# Altium footprint library SignalCommunications.PCBLIB: 466 footprints (part 13 of 30)
Each footprint in its own frame and in the unit in brackets; x right, y up, seen from the top. Pads: shape width x height; smd on the part's side, far side on the other; paste and mask are expansions set on the pad; w line width, h text height; cw(c..) or ccw(c..) is an arc to the next point about the centre after c.
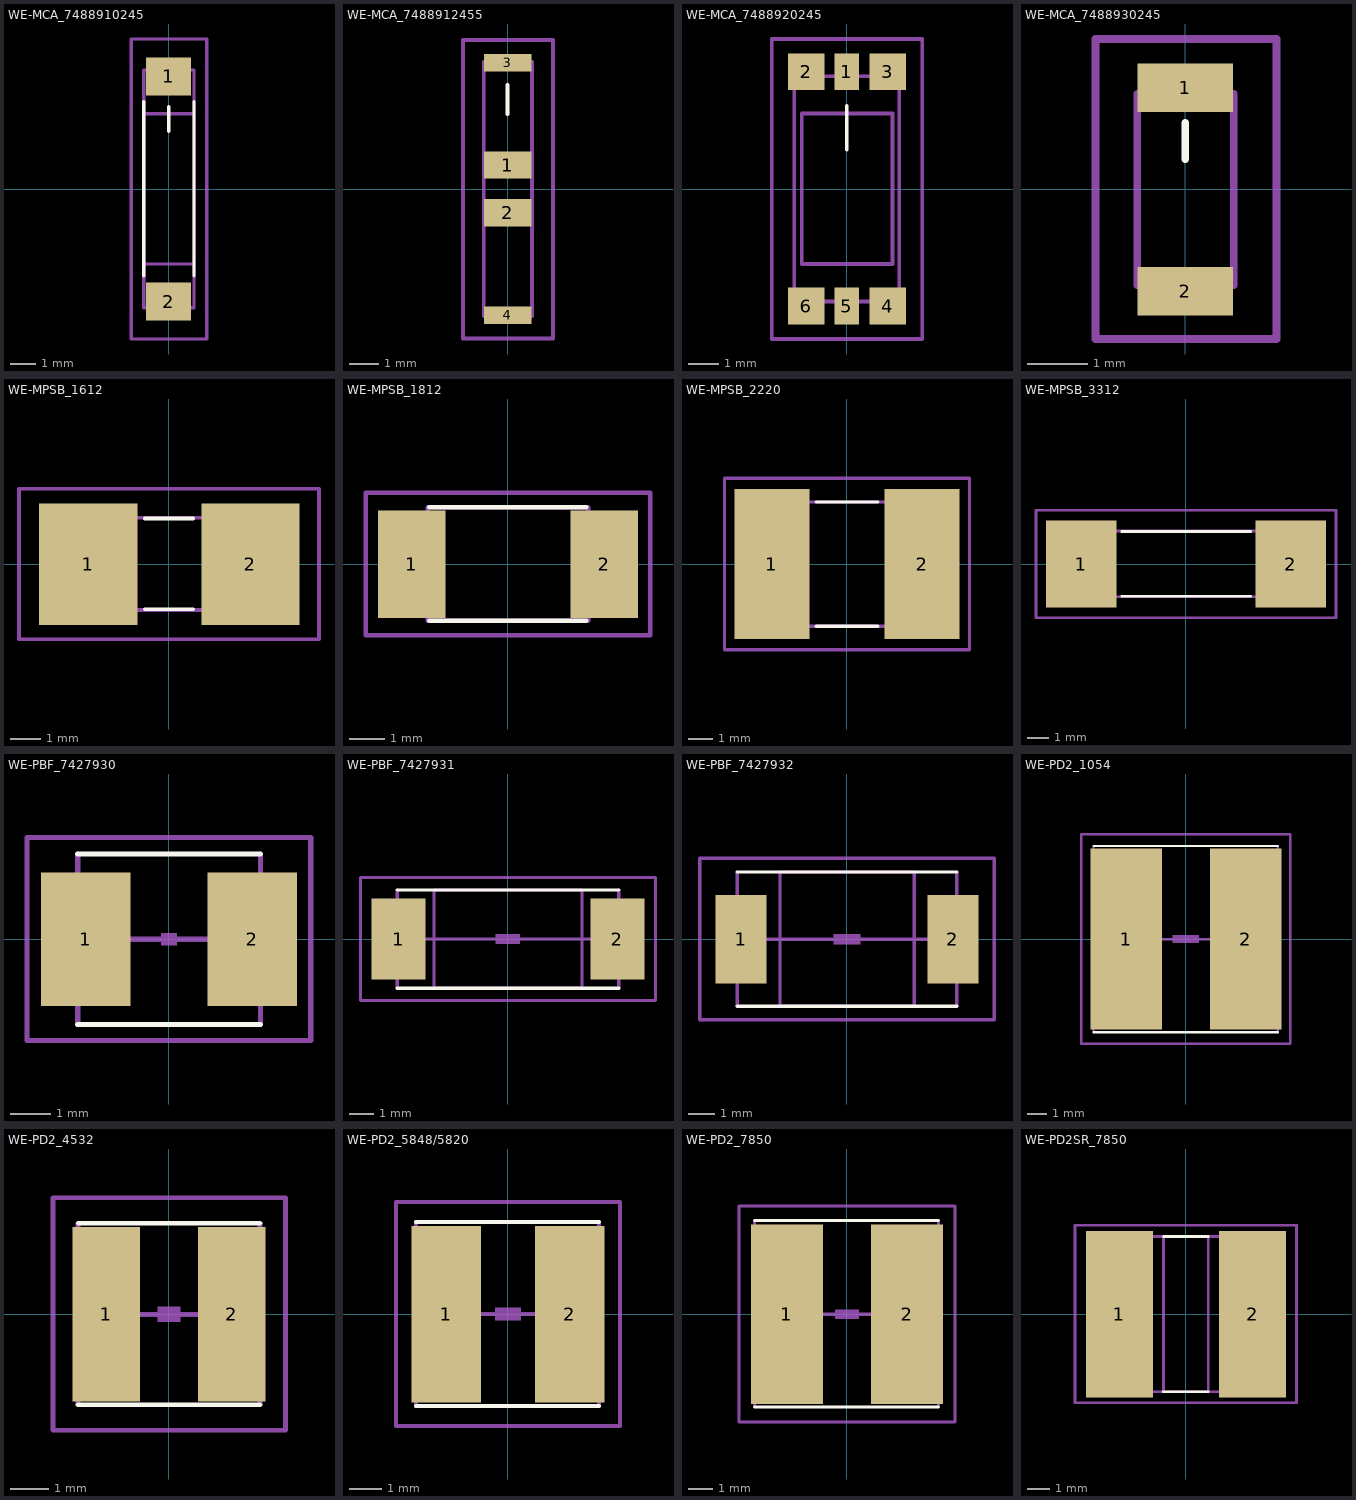
[diagram p12: the footprints below, top view; thin cyan lines are the x and y axes]

## WE-MCA_7488910245 [mil]
pads (2):
  rect 71x60 smd: 1(0,178) 2(0,-177.17)
Top Overlay:
  lines w5: -39.37,-137.01 -39.37,138 ; 0,91 0,130 ; 40,-137.01 40,138
Mechanical 10:
  lines w5: -39.37,-118.11 -39.37,119 40,119 40,-118.11 -39.37,-118.11
Mechanical 16:
  lines w5: -39.37,-187.01 40,-187.01 40,188 -39.37,188 -39.37,-187.01
Mechanical 27:
  lines w5: -59.06,-236.22 -59.06,237 60,237 60,-236.22 -59.06,-236.22

## WE-MCA_7488912455 [mil]
pads (4):
  rect 63x36 smd: 1(0,32) 2(0,-31.1)
  rect 63x23 smd: 3(0,167) 4(0,-166.14)
Top Overlay:
  lines w5: 0,99 0,138
Mechanical 16:
  lines w5: -31.5,-167.32 -31.5,168 32,168 32,-167.32 -31.5,-167.32
Mechanical 27:
  lines w5: -59.06,-196.85 -59.06,197 60,197 60,-196.85 -59.06,-196.85

## WE-MCA_7488920245 [mil]
pads (6):
  rect 32x48 smd: 1(0,154) 5(0,-153.54)
  rect 48x48 smd: 2(-53.15,154) 3(54,154) 4(54,-153.54) 6(-53.15,-153.54)
Top Overlay:
  lines w5: 0,52 0,109
Mechanical 10:
  lines w5: -59.06,-98.43 -59.06,99 60,99 60,-98.43 -59.06,-98.43
Mechanical 16:
  lines w5: -68.9,-147.64 69,-147.64 69,148 -68.9,148 -68.9,-147.64
Mechanical 27:
  lines w5: -98.43,-196.85 -98.43,197 99,197 99,-196.85 -98.43,-196.85

## WE-MCA_7488930245 [mil]
pads (2):
  rect 63x32 smd: 1(0,67) 2(0,-66.93)
Top Overlay:
  lines w5: 0,20 0,44
Mechanical 16:
  lines w5: -31.5,-62.99 -31.5,63 32,63 32,-62.99 -31.5,-62.99
Mechanical 27:
  lines w5: -59.06,-98.43 -59.06,99 60,99 60,-98.43 -59.06,-98.43

## WE-MPSB_1612 [mil]
pads (2):
  rect 129x160 smd: 1(-106,0) 2(107,0)
Top Overlay:
  lines w5: -31.5,-59.06 32,-59.06 ; -31.5,60 32,60
Mechanical 16:
  lines w5: -79.92,-60.04 -79.92,61 80,61 80,-60.04 -79.92,-60.04
Mechanical 27:
  lines w5: -196.85,-98.43 -196.85,99 197,99 197,-98.43 -196.85,-98.43

## WE-MPSB_1812 [mil]
pads (2):
  rect 75x119 smd: 1(-106.3,0) 2(107,0)
Top Overlay:
  lines w5: -86.61,-62.99 87,-62.99 ; -86.61,63 87,63
Mechanical 16:
  lines w5: -88.58,-62.99 -88.58,63 89,63 89,-62.99 -88.58,-62.99
Mechanical 27:
  lines w5: -157.48,-78.74 -157.48,79 158,79 158,-78.74 -157.48,-78.74

## WE-MPSB_2220 [mil]
pads (2):
  rect 121x241 smd: 1(-120.67,0) 2(121,0)
Top Overlay:
  lines w5: -50,-100 50,-100 ; -50,100 50,100
Mechanical 16:
  lines w5: -110.04,-100 -110.04,100 111,100 111,-100 -110.04,-100
Mechanical 27:
  lines w5: -196.85,-137.8 -196.85,138 197,138 197,-137.8 -196.85,-137.8

## WE-MPSB_3312 [mil]
pads (2):
  rect 130x160 smd: 1(-192.52,0) 2(193,0)
Top Overlay:
  lines w5: -118.11,-59.06 119,-59.06 ; -118.11,60 119,60
Mechanical 16:
  lines w5: -167.32,-60.04 -167.32,61 168,61 168,-60.04 -167.32,-60.04
Mechanical 27:
  lines w5: -275.59,-98.43 -275.59,99 276,99 276,-98.43 -275.59,-98.43

## WE-PBF_7427930 [mil]
pads (2):
  rect 87x130 smd: 1(-80.71,0) 2(81,0)
Top Overlay:
  lines w5: -88.58,-82.68 89,-82.68 ; -88.58,83 89,83
Mechanical 16:
  rectangle: -7.87,-5.91 8,6
  lines w5: -88.58,-82.68 -88.58,83 ; -59.06,0 60,0 ; 89,-82.68 89,83
Mechanical 27:
  lines w5: -137.8,-98.43 -137.8,99 138,99 138,-98.43 -137.8,-98.43

## WE-PBF_7427931 [mil]
pads (2):
  rect 87x130 smd: 1(-175.2,0) 2(176,0)
Top Overlay:
  lines w5: -177.17,-78.74 178,-78.74 ; -177.17,79 178,79
Mechanical 10:
  lines w5: -118.11,-78.74 -118.11,79 119,79 119,-78.74 -118.11,-78.74
Mechanical 16:
  rectangle: -19.68,-7.87 20,8
  lines w5: -177.17,-78.74 -177.17,79 ; -149.61,0 150,0 ; 178,-78.74 178,79
Mechanical 27:
  lines w5: -236.22,-98.43 -236.22,99 237,99 237,-98.43 -236.22,-98.43

## WE-PBF_7427932 [mil]
pads (2):
  rect 75x130 smd: 1(-155.51,0) 2(156,0)
Top Overlay:
  lines w5: -161.42,-98.43 162,-98.43 ; -161.42,99 162,99
Mechanical 10:
  lines w5: -98.43,-98.43 -98.43,99 99,99 99,-98.43 -98.43,-98.43
Mechanical 16:
  rectangle: -19.68,-7.87 20,8
  lines w5: -161.42,-98.43 -161.42,99 ; -137.8,0 138,0 ; 162,-98.43 162,99
Mechanical 27:
  lines w5: -216.54,-118.11 -216.54,119 217,119 217,-118.11 -216.54,-118.11

## WE-PD2_1054 [mil]
pads (2):
  rect 148x375 smd: 1(-123.03,0) 2(124,0)
Top Overlay:
  lines w5: -191.27,-192.7 191,-192.7 ; -191.27,193 191,193
Mechanical 16:
  region: 27.84,-7.72 27.84,8.16 -27.72,8.16 -27.72,-7.72
  lines w5: -191.27,-192.7 -191.27,193 ; -123.03,0 124,0 ; 191,-192.7 191,193
Mechanical 27:
  lines w5: -216.54,-216.54 -216.54,217 217,217 217,-216.54 -216.54,-216.54

## WE-PD2_4532 [mil]
pads (2):
  rect 69x178 smd: 1(-63.98,0) 2(64,0)
Top Overlay:
  lines w5: -92.62,-92.15 93,-92.15 ; -92.15,93 93,93
Mechanical 16:
  region: 11.97,-7.84 11.97,8.03 -11.84,8.03 -11.84,-7.84
  lines w5: -92.62,-92.15 -92.62,93 ; -63.98,0 64,0 ; 93,-92.15 93,93
Mechanical 27:
  lines w5: -118.11,-118.11 -118.11,119 119,119 119,-118.11 -118.11,-118.11

## WE-PD2_5848/5820 [mil]
pads (2):
  rect 85x217 smd: 1(-75.79,0) 2(76,0)
Top Overlay:
  lines w5: -112.91,-112.91 112,-112.91 ; -112.91,113 112,113
Mechanical 16:
  region: 15.94,-7.81 15.94,8.06 -15.81,8.06 -15.81,-7.81
  lines w5: -112.91,-112.91 -112.91,113 ; -75.79,0 76,0 ; 112,-112.91 112,113
Mechanical 27:
  lines w5: -137.8,-137.8 -137.8,138 138,138 138,-137.8 -137.8,-137.8

## WE-PD2_7850 [mil]
pads (2):
  rect 119x296 smd: 1(-98.43,0) 2(99,0)
Top Overlay:
  lines w5: -151.5,-152.73 151,-152.73 ; -151.5,154 151,154
Mechanical 16:
  region: 19.91,-7.78 19.91,8.09 -19.78,8.09 -19.78,-7.78
  lines w5: -151.5,-152.73 -151.5,154 ; -98.43,0 99,0 ; 151,-152.73 151,154
Mechanical 27:
  lines w5: -177.17,-177.17 -177.17,178 178,178 178,-177.17 -177.17,-177.17

## WE-PD2SR_7850 [mil]
pads (2):
  rect 119x296 smd: 1(-118.11,0) 2(119,0)
Top Overlay:
  lines w5: -39.37,-137.8 40,-137.8 ; -39.37,138 40,138
Mechanical 10:
  lines w5: -39.37,-137.8 -39.37,138 40,138 40,-137.8 -39.37,-137.8
Mechanical 16:
  lines w5: -153.54,-137.8 -153.54,138 154,138 154,-137.8 -153.54,-137.8
Mechanical 27:
  lines w5: -196.85,-157.48 197,-157.48 197,158 -196.85,158 -196.85,-157.48